# Altium integrated library Analog Devices Operational Amplifiers.IntLib: 2102 symbols (part 46 of 70)
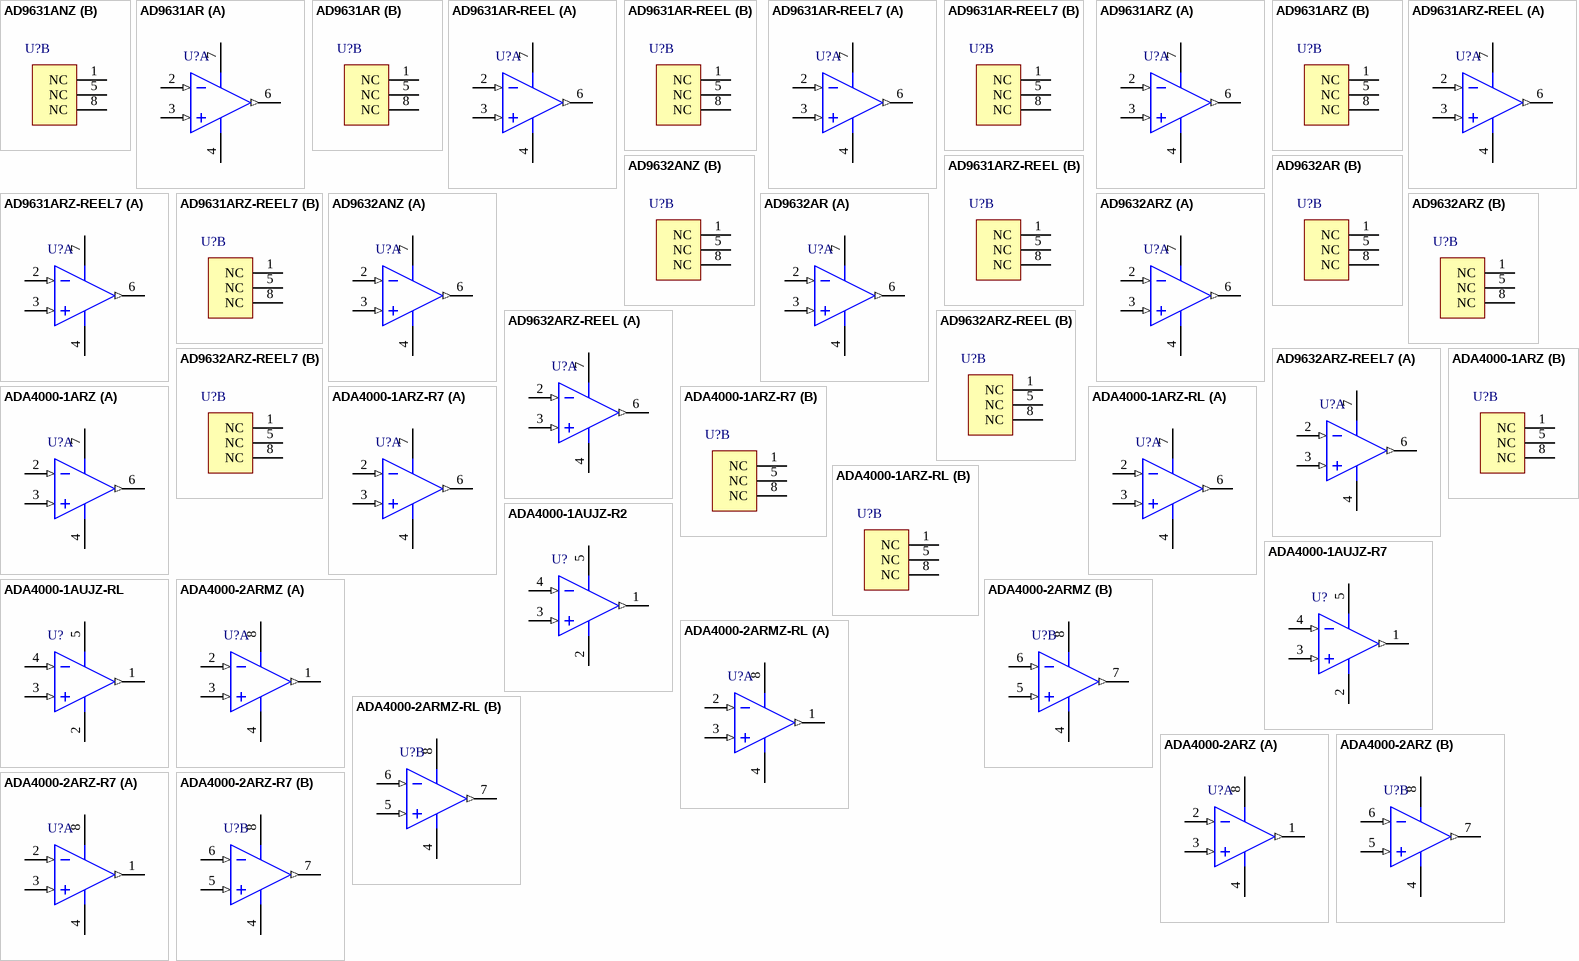
[diagram p159: symbols AD9631ANZ to ADA4000-2ARZ-R7]

## ADA4000-1ARZ-R7
designator U?
Single Channel Wide Bandwidth Operational Amplifier, 5 MHz BW, 20 V/us SR, Industrial, 8-pin SOIC (R-8), Reel; Generic Part Number: ADA4000-1; Manufacturer: Analog Devices; PartNumber: ADA4000-1ARZ-R7; Amplifiers Per Package: 1; Input Bias Current: 5pA; Input Offset Voltage: 200uV; Iq/Amp: 1.65mA; Slew Rate: 20V/us; Small Signal Bandwidth: 5MHz; V Span Max: 36V; V Span Min: 8V; DatasheetVersion: Rev. A; PackageVersion: 060506-A; PackageReference: R-8; PackageDescription: 8-Pin Standard Small Outline Package, Body 3.9 x 4.9 mm, Pitch 1.27 mm; Supplier 1: Digi-Key; Supplier Part Number 1: ADA4000-1ARZ-R7-ND; Mounting Technology: Surface Mount; Code_JEDEC: MS-012-AA; ComponentLink1Description: Manufacturer URL; ComponentLink1URL: http://www.analog.com/en/index.html; ComponentLink2Description: Datasheet; ComponentLink2URL: http://www.analog.com/static/imported-files/data_sheets/ADA4000-1_4000-2_4000-4.pdf; ComponentLink3Description: Package Specification; ComponentLink3URL: http://www.analog.com/static/imported-files/packages/PKG_PDF/SOIC_Narrow%20(R)/R_8.pdf; ComponentLink4Description: Reference Circuit; ComponentLink4URL: http://www.analog.com/en/all-operational-amplifiers-op-amps/operational-amplifiers-op-amps/ada4000-1/products/product.html#product-recommendations
footprint ADI-R-8_N (SOIC, 8-Leads, Body 4.9x3.9mm, Pitch 1.27mm, IPC Medium Density)
footprint ADI-R-8_L (SOIC, 8-Leads, Body 4.9x3.9mm, Pitch 1.27mm, IPC High Density)
footprint ADI-R-8_M (SOIC, 8-Leads, Body 4.9x3.9mm, Pitch 1.27mm, IPC Low Density)
part A pins: 2 -IN (in), 3 +IN (in), 4 -V (power), 6 OUT (out), 7 +V (power)
part B pins: 1 NC, 5 NC, 8 NC

## ADA4000-1ARZ-RL
designator U?
Single Channel Wide Bandwidth Operational Amplifier, 5 MHz BW, 20 V/us SR, Industrial, 8-pin SOIC (R-8), Reel; Generic Part Number: ADA4000-1; Manufacturer: Analog Devices; PartNumber: ADA4000-1ARZ-RL; Amplifiers Per Package: 1; Input Bias Current: 5pA; Input Offset Voltage: 200uV; Iq/Amp: 1.65mA; Slew Rate: 20V/us; Small Signal Bandwidth: 5MHz; V Span Max: 36V; V Span Min: 8V; DatasheetVersion: Rev. A; PackageVersion: 060506-A; PackageReference: R-8; PackageDescription: 8-Pin Standard Small Outline Package, Body 3.9 x 4.9 mm, Pitch 1.27 mm; Supplier 1: Digi-Key; Supplier Part Number 1: ADA4000-1ARZ-RL-ND; Mounting Technology: Surface Mount; Code_JEDEC: MS-012-AA; ComponentLink1Description: Manufacturer URL; ComponentLink1URL: http://www.analog.com/en/index.html; ComponentLink2Description: Datasheet; ComponentLink2URL: http://www.analog.com/static/imported-files/data_sheets/ADA4000-1_4000-2_4000-4.pdf; ComponentLink3Description: Package Specification; ComponentLink3URL: http://www.analog.com/static/imported-files/packages/PKG_PDF/SOIC_Narrow%20(R)/R_8.pdf; ComponentLink4Description: Reference Circuit; ComponentLink4URL: http://www.analog.com/en/all-operational-amplifiers-op-amps/operational-amplifiers-op-amps/ada4000-1/products/product.html#product-recommendations
footprint ADI-R-8_N (SOIC, 8-Leads, Body 4.9x3.9mm, Pitch 1.27mm, IPC Medium Density)
footprint ADI-R-8_L (SOIC, 8-Leads, Body 4.9x3.9mm, Pitch 1.27mm, IPC High Density)
footprint ADI-R-8_M (SOIC, 8-Leads, Body 4.9x3.9mm, Pitch 1.27mm, IPC Low Density)
part A pins: 2 -IN (in), 3 +IN (in), 4 -V (power), 6 OUT (out), 7 +V (power)
part B pins: 1 NC, 5 NC, 8 NC

## ADA4000-1AUJZ-R2
designator U?
Single Channel Wide Bandwidth Operational Amplifier, 5 MHz BW, 20 V/us SR, Industrial, 5-pin SOT23 (UJ-5), Reel; Generic Part Number: ADA4000-1; Manufacturer: Analog Devices; PartNumber: ADA4000-1AUJZ-R2; Amplifiers Per Package: 1; Input Bias Current: 5pA; Input Offset Voltage: 200uV; Iq/Amp: 1.65mA; Slew Rate: 20V/us; Small Signal Bandwidth: 5MHz; V Span Max: 36V; V Span Min: 8V; DatasheetVersion: Rev. A; PackageVersion: 100708-A; PackageReference: UJ-5; PackageDescription: 5-Pin Thin Small Outline Transistor Package, Body 2.9 x 1.6 mm, Pitch 0.95 mm; Supplier 1: Digi-Key; Supplier Part Number 1: ADA4000-1AUJZ-R2TR-ND; Supplier 2: Digi-Key; Supplier Part Number 2: ADA4000-1AUJZ-R2CT-ND; Supplier 3: Digi-Key; Supplier Part Number 3: ADA4000-1AUJZ-R2DKR-ND; Supplier 4: Farnell; Supplier Part Number 4: 1699565; Supplier 5: Newark; Supplier Part Number 5: 46M5133; Mounting Technology: Surface Mount; Code_JEDEC: MO-193-AB; ComponentLink1Description: Manufacturer URL; ComponentLink1URL: http://www.analog.com/en/index.html; ComponentLink2Description: Datasheet; ComponentLink2URL: http://www.analog.com/static/imported-files/data_sheets/ADA4000-1_4000-2_4000-4.pdf; ComponentLink3Description: Package Specification; ComponentLink3URL: http:/www.analog.com/static/imported-files/packages/PKG_PDF/TSOT(UJ)/UJ_5.pdf; ComponentLink4Description: Reference Circuit; ComponentLink4URL: http://www.analog.com/en/all-operational-amplifiers-op-amps/operational-amplifiers-op-amps/ada4000-1/products/product.html#product-recommendations
footprint ADI-UJ-5_N (SOT23, 5-Leads, Body 2.9x1.6mm, Pitch 0.95mm, IPC Medium Density)
footprint ADI-UJ-5_L (SOT23, 5-Leads, Body 2.9x1.6mm, Pitch 0.95mm, IPC High Density)
footprint ADI-UJ-5_M (SOT23, 5-Leads, Body 2.9x1.6mm, Pitch 0.95mm, IPC Low Density)
pins: 1 OUT (out), 2 -V (power), 3 +IN (in), 4 -IN (in), 5 +V (power)

## ADA4000-1AUJZ-R7
designator U?
Single Channel Wide Bandwidth Operational Amplifier, 5 MHz BW, 20 V/us SR, Industrial, 5-pin SOT23 (UJ-5), Reel; Generic Part Number: ADA4000-1; Manufacturer: Analog Devices; PartNumber: ADA4000-1AUJZ-R7; Amplifiers Per Package: 1; Input Bias Current: 5pA; Input Offset Voltage: 200uV; Iq/Amp: 1.65mA; Slew Rate: 20V/us; Small Signal Bandwidth: 5MHz; V Span Max: 36V; V Span Min: 8V; DatasheetVersion: Rev. A; PackageVersion: 100708-A; PackageReference: UJ-5; PackageDescription: 5-Pin Thin Small Outline Transistor Package, Body 2.9 x 1.6 mm, Pitch 0.95 mm; Supplier 1: Digi-Key; Supplier Part Number 1: ADA4000-1AUJZ-R7TR-ND; Supplier 2: Digi-Key; Supplier Part Number 2: ADA4000-1AUJZ-R7CT-ND; Supplier 3: Digi-Key; Supplier Part Number 3: ADA4000-1AUJZ-R7DKR-ND; Supplier 4: Newark; Supplier Part Number 4: 46M5134; Mounting Technology: Surface Mount; Code_JEDEC: MO-193-AB; ComponentLink1Description: Manufacturer URL; ComponentLink1URL: http://www.analog.com/en/index.html; ComponentLink2Description: Datasheet; ComponentLink2URL: http://www.analog.com/static/imported-files/data_sheets/ADA4000-1_4000-2_4000-4.pdf; ComponentLink3Description: Package Specification; ComponentLink3URL: http:/www.analog.com/static/imported-files/packages/PKG_PDF/TSOT(UJ)/UJ_5.pdf; ComponentLink4Description: Reference Circuit; ComponentLink4URL: http://www.analog.com/en/all-operational-amplifiers-op-amps/operational-amplifiers-op-amps/ada4000-1/products/product.html#product-recommendations
footprint ADI-UJ-5_N (SOT23, 5-Leads, Body 2.9x1.6mm, Pitch 0.95mm, IPC Medium Density)
footprint ADI-UJ-5_L (SOT23, 5-Leads, Body 2.9x1.6mm, Pitch 0.95mm, IPC High Density)
footprint ADI-UJ-5_M (SOT23, 5-Leads, Body 2.9x1.6mm, Pitch 0.95mm, IPC Low Density)
pins: 1 OUT (out), 2 -V (power), 3 +IN (in), 4 -IN (in), 5 +V (power)

## ADA4000-1AUJZ-RL
designator U?
Single Channel Wide Bandwidth Operational Amplifier, 5 MHz BW, 20 V/us SR, Industrial, 5-pin SOT23 (UJ-5), Reel; Generic Part Number: ADA4000-1; Manufacturer: Analog Devices; PartNumber: ADA4000-1AUJZ-RL; Amplifiers Per Package: 1; Input Bias Current: 5pA; Input Offset Voltage: 200uV; Iq/Amp: 1.65mA; Slew Rate: 20V/us; Small Signal Bandwidth: 5MHz; V Span Max: 36V; V Span Min: 8V; DatasheetVersion: Rev. A; PackageVersion: 100708-A; PackageReference: UJ-5; PackageDescription: 5-Pin Thin Small Outline Transistor Package, Body 2.9 x 1.6 mm, Pitch 0.95 mm; Supplier 1: Digi-Key; Supplier Part Number 1: ADA4000-1AUJZ-RL-ND; Mounting Technology: Surface Mount; Code_JEDEC: MO-193-AB; ComponentLink1Description: Manufacturer URL; ComponentLink1URL: http://www.analog.com/en/index.html; ComponentLink2Description: Datasheet; ComponentLink2URL: http://www.analog.com/static/imported-files/data_sheets/ADA4000-1_4000-2_4000-4.pdf; ComponentLink3Description: Package Specification; ComponentLink3URL: http:/www.analog.com/static/imported-files/packages/PKG_PDF/TSOT(UJ)/UJ_5.pdf; ComponentLink4Description: Reference Circuit; ComponentLink4URL: http://www.analog.com/en/all-operational-amplifiers-op-amps/operational-amplifiers-op-amps/ada4000-1/products/product.html#product-recommendations
footprint ADI-UJ-5_N (SOT23, 5-Leads, Body 2.9x1.6mm, Pitch 0.95mm, IPC Medium Density)
footprint ADI-UJ-5_L (SOT23, 5-Leads, Body 2.9x1.6mm, Pitch 0.95mm, IPC High Density)
footprint ADI-UJ-5_M (SOT23, 5-Leads, Body 2.9x1.6mm, Pitch 0.95mm, IPC Low Density)
pins: 1 OUT (out), 2 -V (power), 3 +IN (in), 4 -IN (in), 5 +V (power)

## ADA4000-2ARMZ
designator U?
Double Channel Wide Bandwidth Operational Amplifier, 5 MHz BW, 20 V/us SR, Industrial, 8-pin SOP (RM-8), Tube; Generic Part Number: ADA4000-2; Manufacturer: Analog Devices; PartNumber: ADA4000-2ARMZ; Amplifiers Per Package: 2; Input Bias Current: 5pA; Input Offset Voltage: 200uV; Iq/Amp: 1.65mA; Slew Rate: 20V/us; Small Signal Bandwidth: 5MHz; V Span Max: 36V; V Span Min: 8V; DatasheetVersion: Rev. A; PackageReference: RM-8; PackageDescription: 8-Pin Mini Small Outline Package, Body 3 x 3 mm, Pitch 0.65 mm; Supplier 1: Digi-Key; Supplier Part Number 1: ADA4000-2ARMZ-ND; Mounting Technology: Surface Mount; Code_JEDEC: MO-187-AA; ComponentLink1Description: Manufacturer URL; ComponentLink1URL: http://www.analog.com/en/index.html; ComponentLink2Description: Datasheet; ComponentLink2URL: http://www.analog.com/static/imported-files/data_sheets/ADA4000-1_4000-2_4000-4.pdf; ComponentLink3Description: Package Specification; ComponentLink3URL: http://www.analog.com/static/imported-files/packages/PKG_PDF/MSOP%28RM%29/RM_8.pdf
footprint ADI-RM-8_N (SOP, 8-Leads, Body 3x3mm, Pitch 0.65mm, IPC Medium Density)
footprint ADI-RM-8_L (SOP, 8-Leads, Body 3x3mm, Pitch 0.65mm, IPC High Density)
footprint ADI-RM-8_M (SOP, 8-Leads, Body 3x3mm, Pitch 0.65mm, IPC Low Density)
pins on every part: 4 -V (power), 8 +V (power)
part A pins: 1 OUT A (out), 2 -IN A (in), 3 +IN A (in)
part B pins: 5 +IN B (in), 6 -IN B (in), 7 OUT B (out)

## ADA4000-2ARMZ-RL
designator U?
Double Channel Wide Bandwidth Operational Amplifier, 5 MHz BW, 20 V/us SR, Industrial, 8-pin SOP (RM-8), Reel; Generic Part Number: ADA4000-2; Manufacturer: Analog Devices; PartNumber: ADA4000-2ARMZ-RL; Amplifiers Per Package: 2; Input Bias Current: 5pA; Input Offset Voltage: 200uV; Iq/Amp: 1.65mA; Slew Rate: 20V/us; Small Signal Bandwidth: 5MHz; V Span Max: 36V; V Span Min: 8V; DatasheetVersion: Rev. A; PackageReference: RM-8; PackageDescription: 8-Pin Mini Small Outline Package, Body 3 x 3 mm, Pitch 0.65 mm; Supplier 1: Digi-Key; Supplier Part Number 1: ADA4000-2ARMZ-RLTR-ND; Supplier 2: Digi-Key; Supplier Part Number 2: ADA4000-2ARMZ-RLCT-ND; Supplier 3: Digi-Key; Supplier Part Number 3: ADA4000-2ARMZ-RLDKR-ND; Supplier 4: Newark; Supplier Part Number 4: 46M5135; Mounting Technology: Surface Mount; Code_JEDEC: MO-187-AA; ComponentLink1Description: Manufacturer URL; ComponentLink1URL: http://www.analog.com/en/index.html; ComponentLink2Description: Datasheet; ComponentLink2URL: http://www.analog.com/static/imported-files/data_sheets/ADA4000-1_4000-2_4000-4.pdf; ComponentLink3Description: Package Specification; ComponentLink3URL: http://www.analog.com/static/imported-files/packages/PKG_PDF/MSOP%28RM%29/RM_8.pdf
footprint ADI-RM-8_N (SOP, 8-Leads, Body 3x3mm, Pitch 0.65mm, IPC Medium Density)
footprint ADI-RM-8_L (SOP, 8-Leads, Body 3x3mm, Pitch 0.65mm, IPC High Density)
footprint ADI-RM-8_M (SOP, 8-Leads, Body 3x3mm, Pitch 0.65mm, IPC Low Density)
pins on every part: 4 -V (power), 8 +V (power)
part A pins: 1 OUT A (out), 2 -IN A (in), 3 +IN A (in)
part B pins: 5 +IN B (in), 6 -IN B (in), 7 OUT B (out)

## ADA4000-2ARZ
designator U?
Double Channel Wide Bandwidth Operational Amplifier, 5 MHz BW, 20 V/us SR, Industrial, 8-pin SOIC (R-8), Tube; Generic Part Number: ADA4000-2; Manufacturer: Analog Devices; PartNumber: ADA4000-2ARZ; Amplifiers Per Package: 2; Input Bias Current: 5pA; Input Offset Voltage: 200uV; Iq/Amp: 1.65mA; Slew Rate: 20V/us; Small Signal Bandwidth: 5MHz; V Span Max: 36V; V Span Min: 8V; DatasheetVersion: Rev. A; PackageVersion: 060506-A; PackageReference: R-8; PackageDescription: 8-Pin Standard Small Outline Package, Body 3.9 x 4.9 mm, Pitch 1.27 mm; Supplier 1: Digi-Key; Supplier Part Number 1: ADA4000-2ARZ-ND; Supplier 2: Farnell; Supplier Part Number 2: 1498689; Supplier 3: Newark; Supplier Part Number 3: 15P0319; Supplier 4: Newark; Supplier Part Number 4: 46M5137; Mounting Technology: Surface Mount; Code_JEDEC: MS-012-AA; ComponentLink1Description: Manufacturer URL; ComponentLink1URL: http://www.analog.com/en/index.html; ComponentLink2Description: Datasheet; ComponentLink2URL: http://www.analog.com/static/imported-files/data_sheets/ADA4000-1_4000-2_4000-4.pdf; ComponentLink3Description: Package Specification; ComponentLink3URL: http://www.analog.com/static/imported-files/packages/PKG_PDF/SOIC_Narrow%20(R)/R_8.pdf
footprint ADI-R-8_N (SOIC, 8-Leads, Body 4.9x3.9mm, Pitch 1.27mm, IPC Medium Density)
footprint ADI-R-8_L (SOIC, 8-Leads, Body 4.9x3.9mm, Pitch 1.27mm, IPC High Density)
footprint ADI-R-8_M (SOIC, 8-Leads, Body 4.9x3.9mm, Pitch 1.27mm, IPC Low Density)
pins on every part: 4 -V (power), 8 +V (power)
part A pins: 1 OUT A (out), 2 -IN A (in), 3 +IN A (in)
part B pins: 5 +IN B (in), 6 -IN B (in), 7 OUT B (out)

## ADA4000-2ARZ-R7
designator U?
Double Channel Wide Bandwidth Operational Amplifier, 5 MHz BW, 20 V/us SR, Industrial, 8-pin SOIC (R-8), Reel; Generic Part Number: ADA4000-2; Manufacturer: Analog Devices; PartNumber: ADA4000-2ARZ-R7; Amplifiers Per Package: 2; Input Bias Current: 5pA; Input Offset Voltage: 200uV; Iq/Amp: 1.65mA; Slew Rate: 20V/us; Small Signal Bandwidth: 5MHz; V Span Max: 36V; V Span Min: 8V; DatasheetVersion: Rev. A; PackageVersion: 060506-A; PackageReference: R-8; PackageDescription: 8-Pin Standard Small Outline Package, Body 3.9 x 4.9 mm, Pitch 1.27 mm; Supplier 1: Digi-Key; Supplier Part Number 1: ADA4000-2ARZ-R7-ND; Mounting Technology: Surface Mount; Code_JEDEC: MS-012-AA; ComponentLink1Description: Manufacturer URL; ComponentLink1URL: http://www.analog.com/en/index.html; ComponentLink2Description: Datasheet; ComponentLink2URL: http://www.analog.com/static/imported-files/data_sheets/ADA4000-1_4000-2_4000-4.pdf; ComponentLink3Description: Package Specification; ComponentLink3URL: http://www.analog.com/static/imported-files/packages/PKG_PDF/SOIC_Narrow%20(R)/R_8.pdf
footprint ADI-R-8_N (SOIC, 8-Leads, Body 4.9x3.9mm, Pitch 1.27mm, IPC Medium Density)
footprint ADI-R-8_L (SOIC, 8-Leads, Body 4.9x3.9mm, Pitch 1.27mm, IPC High Density)
footprint ADI-R-8_M (SOIC, 8-Leads, Body 4.9x3.9mm, Pitch 1.27mm, IPC Low Density)
pins on every part: 4 -V (power), 8 +V (power)
part A pins: 1 OUT A (out), 2 -IN A (in), 3 +IN A (in)
part B pins: 5 +IN B (in), 6 -IN B (in), 7 OUT B (out)

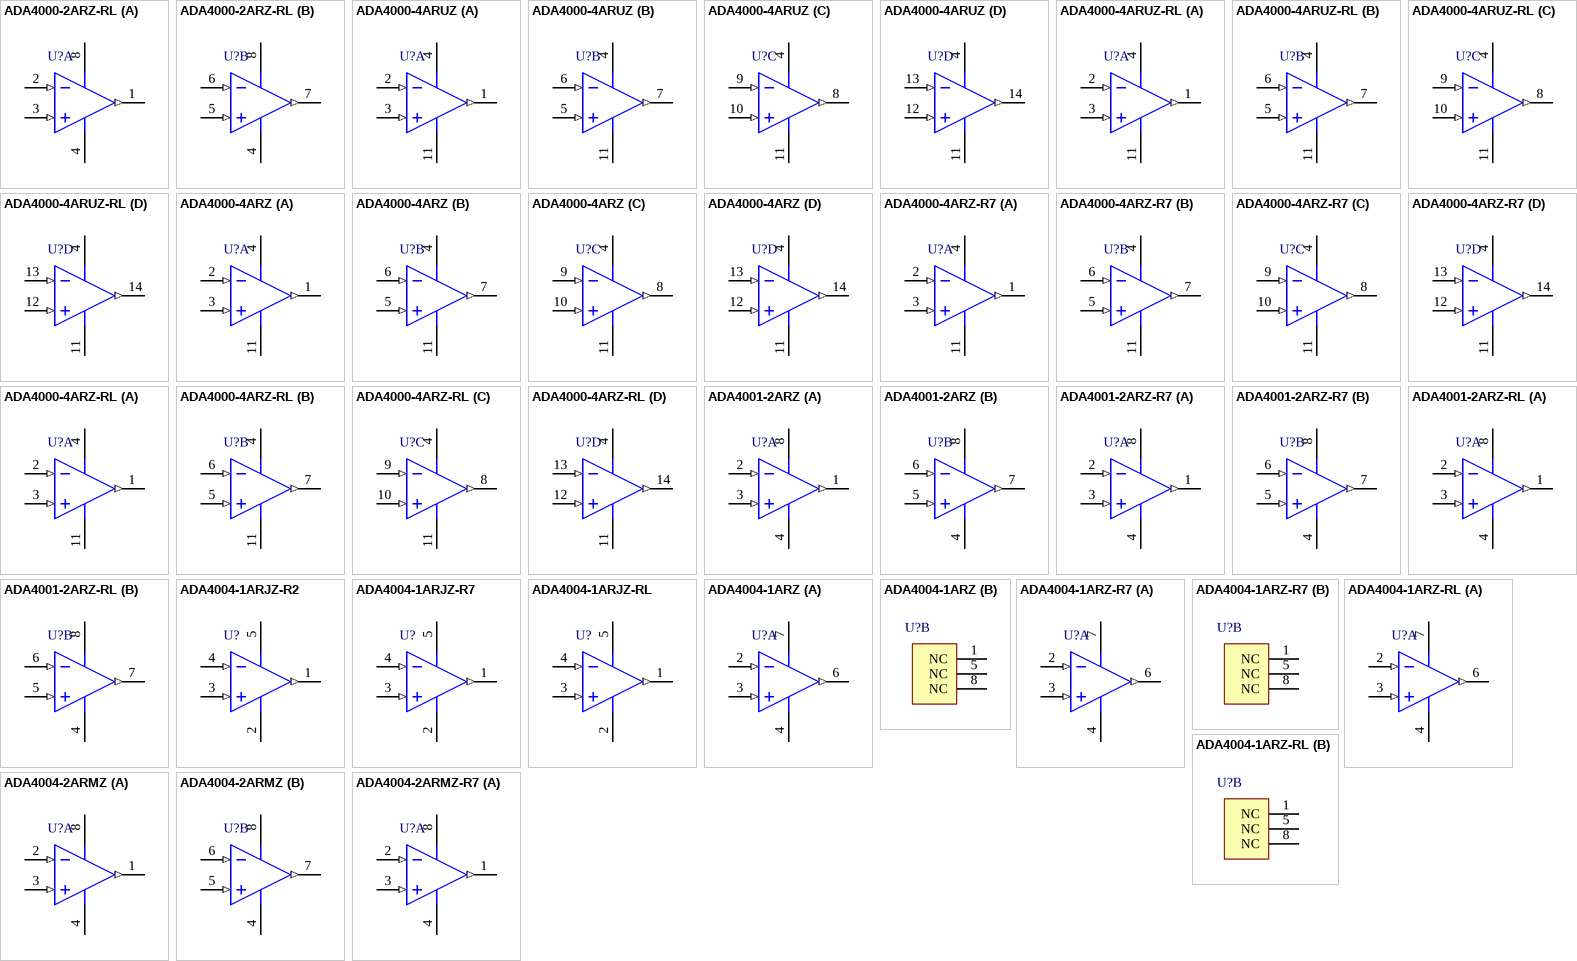
[diagram p72: symbols ADA4000-2ARZ-RL to ADA4004-2ARMZ-R7]

## ADA4000-2ARZ-RL
designator U?
Double Channel Wide Bandwidth Operational Amplifier, 5 MHz BW, 20 V/us SR, Industrial, 8-pin SOIC (R-8), Reel; Generic Part Number: ADA4000-2; Manufacturer: Analog Devices; PartNumber: ADA4000-2ARZ-RL; Amplifiers Per Package: 2; Input Bias Current: 5pA; Input Offset Voltage: 200uV; Iq/Amp: 1.65mA; Slew Rate: 20V/us; Small Signal Bandwidth: 5MHz; V Span Max: 36V; V Span Min: 8V; DatasheetVersion: Rev. A; PackageVersion: 060506-A; PackageReference: R-8; PackageDescription: 8-Pin Standard Small Outline Package, Body 3.9 x 4.9 mm, Pitch 1.27 mm; Supplier 1: Digi-Key; Supplier Part Number 1: ADA4000-2ARZ-RL-ND; Mounting Technology: Surface Mount; Code_JEDEC: MS-012-AA; ComponentLink1Description: Manufacturer URL; ComponentLink1URL: http://www.analog.com/en/index.html; ComponentLink2Description: Datasheet; ComponentLink2URL: http://www.analog.com/static/imported-files/data_sheets/ADA4000-1_4000-2_4000-4.pdf; ComponentLink3Description: Package Specification; ComponentLink3URL: http://www.analog.com/static/imported-files/packages/PKG_PDF/SOIC_Narrow%20(R)/R_8.pdf
footprint ADI-R-8_N (SOIC, 8-Leads, Body 4.9x3.9mm, Pitch 1.27mm, IPC Medium Density)
footprint ADI-R-8_L (SOIC, 8-Leads, Body 4.9x3.9mm, Pitch 1.27mm, IPC High Density)
footprint ADI-R-8_M (SOIC, 8-Leads, Body 4.9x3.9mm, Pitch 1.27mm, IPC Low Density)
pins on every part: 4 -V (power), 8 +V (power)
part A pins: 1 OUT A (out), 2 -IN A (in), 3 +IN A (in)
part B pins: 5 +IN B (in), 6 -IN B (in), 7 OUT B (out)

## ADA4000-4ARUZ
designator U?
Quad Channel Wide Bandwidth Operational Amplifier, 5 MHz BW, 20 V/us SR, Industrial, 14-pin SOP (RU-14),Tube; Generic Part Number: ADA4000-4; Manufacturer: Analog Devices; PartNumber: ADA4000-4ARUZ; Amplifiers Per Package: 4; Input Bias Current: 5pA; Input Offset Voltage: 200uV; Iq/Amp: 1.65mA; Slew Rate: 20V/us; Small Signal Bandwidth: 5MHz; V Span Max: 36V; V Span Min: 8V; DatasheetVersion: Rev. A; PackageReference: RU-14; PackageDescription: 14-Pin Thin Shrink Small Outline Package, Body 5 x 4.4 mm, Pitch 0.65 mm; Supplier 1: Digi-Key; Supplier Part Number 1: ADA4000-4ARUZ-ND; Supplier 2: Newark; Supplier Part Number 2: 50M0761; Mounting Technology: Surface Mount; Code_JEDEC: MO-153AB-1; ComponentLink1Description: Manufacturer URL; ComponentLink1URL: http://www.analog.com/en/index.html; ComponentLink2Description: Datasheet; ComponentLink2URL: http://www.analog.com/static/imported-files/data_sheets/ADA4000-1_4000-2_4000-4.pdf; ComponentLink3Description: Package Specification; ComponentLink3URL: http://www.analog.com/static/imported-files/packages/36057385283879153717235186773RU14.pdf
footprint ADI-RU-14_N (SOP, 14-Leads, Body 5x4.4mm, Pitch 0.65mm, IPC Medium Density)
footprint ADI-RU-14_L (SOP, 14-Leads, Body 5x4.4mm, Pitch 0.65mm, IPC High Density)
footprint ADI-RU-14_M (SOP, 14-Leads, Body 5x4.4mm, Pitch 0.65mm, IPC Low Density)
pins on every part: 4 +V (power), 11 -V (power)
part A pins: 1 OUT A (out), 2 -IN A (in), 3 +IN A (in)
part B pins: 5 +IN B (in), 6 -IN B (in), 7 OUT B (out)
part C pins: 8 OUT C (out), 9 -IN C (in), 10 +IN C (in)
part D pins: 12 +IN D (in), 13 -IN D (in), 14 OUT D (out)

## ADA4000-4ARUZ-RL
designator U?
Quad Channel Wide Bandwidth Operational Amplifier, 5 MHz BW, 20 V/us SR, Industrial, 14-pin SOP (RU-14), Reel; Generic Part Number: ADA4000-4; Manufacturer: Analog Devices; PartNumber: ADA4000-4ARUZ-RL; Amplifiers Per Package: 4; Input Bias Current: 5pA; Input Offset Voltage: 200uV; Iq/Amp: 1.65mA; Slew Rate: 20V/us; Small Signal Bandwidth: 5MHz; V Span Max: 36V; V Span Min: 8V; DatasheetVersion: Rev. A; PackageReference: RU-14; PackageDescription: 14-Pin Thin Shrink Small Outline Package, Body 5 x 4.4 mm, Pitch 0.65 mm; Supplier 1: Digi-Key; Supplier Part Number 1: ADA4000-4ARUZ-RL-ND; Supplier 2: Newark; Supplier Part Number 2: 50M0762; Mounting Technology: Surface Mount; Code_JEDEC: MO-153AB-1; ComponentLink1Description: Manufacturer URL; ComponentLink1URL: http://www.analog.com/en/index.html; ComponentLink2Description: Datasheet; ComponentLink2URL: http://www.analog.com/static/imported-files/data_sheets/ADA4000-1_4000-2_4000-4.pdf; ComponentLink3Description: Package Specification; ComponentLink3URL: http://www.analog.com/static/imported-files/packages/36057385283879153717235186773RU14.pdf
footprint ADI-RU-14_N (SOP, 14-Leads, Body 5x4.4mm, Pitch 0.65mm, IPC Medium Density)
footprint ADI-RU-14_L (SOP, 14-Leads, Body 5x4.4mm, Pitch 0.65mm, IPC High Density)
footprint ADI-RU-14_M (SOP, 14-Leads, Body 5x4.4mm, Pitch 0.65mm, IPC Low Density)
pins on every part: 4 +V (power), 11 -V (power)
part A pins: 1 OUT A (out), 2 -IN A (in), 3 +IN A (in)
part B pins: 5 +IN B (in), 6 -IN B (in), 7 OUT B (out)
part C pins: 8 OUT C (out), 9 -IN C (in), 10 +IN C (in)
part D pins: 12 +IN D (in), 13 -IN D (in), 14 OUT D (out)

## ADA4000-4ARZ
designator U?
Quad Channel Wide Bandwidth Operational Amplifier, 5 MHz BW, 20 V/us SR, Industrial, 14-pin SOIC (R-14), Tube; Generic Part Number: ADA4000-4; Manufacturer: Analog Devices; PartNumber: ADA4000-4ARZ; Amplifiers Per Package: 4; Input Bias Current: 5pA; Input Offset Voltage: 200uV; Iq/Amp: 1.65mA; Slew Rate: 20V/us; Small Signal Bandwidth: 5MHz; V Span Max: 36V; V Span Min: 8V; DatasheetVersion: Rev. A; PackageVersion: 060606-A; PackageReference: R-14; PackageDescription: 14-Pin Standard Small Outline Package, Body 8.65 x 3.9 mm, Pitch 1.27 mm; Supplier 1: Digi-Key; Supplier Part Number 1: ADA4000-4ARZ-ND; Supplier 2: Farnell; Supplier Part Number 2: 1498690; Supplier 3: Newark; Supplier Part Number 3: 15P0320; Mounting Technology: Surface Mount; Code_JEDEC: MS-012-AB; ComponentLink1Description: Manufacturer URL; ComponentLink1URL: http://www.analog.com/en/index.html; ComponentLink2Description: Datasheet; ComponentLink2URL: http://www.analog.com/static/imported-files/data_sheets/ADA4000-1_4000-2_4000-4.pdf; ComponentLink3Description: Package Specification; ComponentLink3URL: http://www.analog.com/static/imported-files/packages/PKG_PDF/SOIC_Narrow%20(R)/R_14.pdf
footprint ADI-R-14_N (SOIC, 14-Leads, Body 8.65x3.9mm, Pitch 1.27mm, IPC Medium Density)
footprint ADI-R-14_L (SOIC, 14-Leads, Body 8.65x3.9mm, Pitch 1.27mm, IPC High Density)
footprint ADI-R-14_M (SOIC, 14-Leads, Body 8.65x3.9mm, Pitch 1.27mm, IPC Low Density)
pins on every part: 4 +V (power), 11 -V (power)
part A pins: 1 OUT A (out), 2 -IN A (in), 3 +IN A (in)
part B pins: 5 +IN B (in), 6 -IN B (in), 7 OUT B (out)
part C pins: 8 OUT C (out), 9 -IN C (in), 10 +IN C (in)
part D pins: 12 +IN D (in), 13 -IN D (in), 14 OUT D (out)

## ADA4000-4ARZ-R7
designator U?
Quad Channel Wide Bandwidth Operational Amplifier, 5 MHz BW, 20 V/us SR, Industrial, 14-pin SOIC (R-14), Reel; Generic Part Number: ADA4000-4; Manufacturer: Analog Devices; PartNumber: ADA4000-4ARZ-R7; Amplifiers Per Package: 4; Input Bias Current: 5pA; Input Offset Voltage: 200uV; Iq/Amp: 1.65mA; Slew Rate: 20V/us; Small Signal Bandwidth: 5MHz; V Span Max: 36V; V Span Min: 8V; DatasheetVersion: Rev. A; PackageVersion: 060606-A; PackageReference: R-14; PackageDescription: 14-Pin Standard Small Outline Package, Body 8.65 x 3.9 mm, Pitch 1.27 mm; Supplier 1: Digi-Key; Supplier Part Number 1: ADA4000-4ARZ-R7-ND; Supplier 2: Newark; Supplier Part Number 2: 46M5142; Mounting Technology: Surface Mount; Code_JEDEC: MS-012-AB; ComponentLink1Description: Manufacturer URL; ComponentLink1URL: http://www.analog.com/en/index.html; ComponentLink2Description: Datasheet; ComponentLink2URL: http://www.analog.com/static/imported-files/data_sheets/ADA4000-1_4000-2_4000-4.pdf; ComponentLink3Description: Package Specification; ComponentLink3URL: http://www.analog.com/static/imported-files/packages/PKG_PDF/SOIC_Narrow%20(R)/R_14.pdf
footprint ADI-R-14_N (SOIC, 14-Leads, Body 8.65x3.9mm, Pitch 1.27mm, IPC Medium Density)
footprint ADI-R-14_L (SOIC, 14-Leads, Body 8.65x3.9mm, Pitch 1.27mm, IPC High Density)
footprint ADI-R-14_M (SOIC, 14-Leads, Body 8.65x3.9mm, Pitch 1.27mm, IPC Low Density)
pins on every part: 4 +V (power), 11 -V (power)
part A pins: 1 OUT A (out), 2 -IN A (in), 3 +IN A (in)
part B pins: 5 +IN B (in), 6 -IN B (in), 7 OUT B (out)
part C pins: 8 OUT C (out), 9 -IN C (in), 10 +IN C (in)
part D pins: 12 +IN D (in), 13 -IN D (in), 14 OUT D (out)

## ADA4000-4ARZ-RL
designator U?
Quad Channel Wide Bandwidth Operational Amplifier, 5 MHz BW, 20 V/us SR, Industrial, 14-pin SOIC (R-14), Reel; Generic Part Number: ADA4000-4; Manufacturer: Analog Devices; PartNumber: ADA4000-4ARZ-RL; Amplifiers Per Package: 4; Input Bias Current: 5pA; Input Offset Voltage: 200uV; Iq/Amp: 1.65mA; Slew Rate: 20V/us; Small Signal Bandwidth: 5MHz; V Span Max: 36V; V Span Min: 8V; DatasheetVersion: Rev. A; PackageVersion: 060606-A; PackageReference: R-14; PackageDescription: 14-Pin Standard Small Outline Package, Body 8.65 x 3.9 mm, Pitch 1.27 mm; Supplier 1: Digi-Key; Supplier Part Number 1: ADA4000-4ARZ-RL-ND; Mounting Technology: Surface Mount; Code_JEDEC: MS-012-AB; ComponentLink1Description: Manufacturer URL; ComponentLink1URL: http://www.analog.com/en/index.html; ComponentLink2Description: Datasheet; ComponentLink2URL: http://www.analog.com/static/imported-files/data_sheets/ADA4000-1_4000-2_4000-4.pdf; ComponentLink3Description: Package Specification; ComponentLink3URL: http://www.analog.com/static/imported-files/packages/PKG_PDF/SOIC_Narrow%20(R)/R_14.pdf
footprint ADI-R-14_N (SOIC, 14-Leads, Body 8.65x3.9mm, Pitch 1.27mm, IPC Medium Density)
footprint ADI-R-14_L (SOIC, 14-Leads, Body 8.65x3.9mm, Pitch 1.27mm, IPC High Density)
footprint ADI-R-14_M (SOIC, 14-Leads, Body 8.65x3.9mm, Pitch 1.27mm, IPC Low Density)
pins on every part: 4 +V (power), 11 -V (power)
part A pins: 1 OUT A (out), 2 -IN A (in), 3 +IN A (in)
part B pins: 5 +IN B (in), 6 -IN B (in), 7 OUT B (out)
part C pins: 8 OUT C (out), 9 -IN C (in), 10 +IN C (in)
part D pins: 12 +IN D (in), 13 -IN D (in), 14 OUT D (out)

## ADA4001-2ARZ
designator U?
Double Channel Low Noise Operational Amplifier, 10.3 MHz BW, 25 V/us SR, Industrial, 8-pin SOIC (R-8), Tube; Generic Part Number: ADA4001-2; Manufacturer: Analog Devices; PartNumber: ADA4001-2ARZ; Amplifiers Per Package: 2; Input Bias Current: 20pA; Input Offset Voltage: 500uV; Iq/Amp: 2mA; Slew Rate: 25V/us; V Span Max: 36V; V Span Min: 10V; DatasheetVersion: Rev. B; PackageVersion: 060506-A; PackageReference: R-8; PackageDescription: 8-Pin Standard Small Outline Package, Body 3.9 x 4.9 mm, Pitch 1.27 mm; Supplier 1: Digi-Key; Supplier Part Number 1: ADA4001-2ARZ-ND; Supplier 2: Farnell; Supplier Part Number 2: 2081044; Supplier 3: Newark; Supplier Part Number 3: 86T6041; Packing: Tube; Small Signal Bandwidth: 10.3MHz; Mounting Technology: Surface Mount; Code_JEDEC: MS-012-AA; ComponentLink1Description: Manufacturer URL; ComponentLink1URL: http://www.analog.com/en/index.html; ComponentLink2Description: Datasheet; ComponentLink2URL: http://www.analog.com/static/imported-files/data_sheets/ADA4001-2.pdf; ComponentLink3Description: Package Specification; ComponentLink3URL: http://www.analog.com/static/imported-files/packages/PKG_PDF/SOIC_Narrow%20(R)/R_8.pdf
footprint ADI-R-8_N (SOIC, 8-Leads, Body 4.9x3.9mm, Pitch 1.27mm, IPC Medium Density)
footprint ADI-R-8_L (SOIC, 8-Leads, Body 4.9x3.9mm, Pitch 1.27mm, IPC High Density)
footprint ADI-R-8_M (SOIC, 8-Leads, Body 4.9x3.9mm, Pitch 1.27mm, IPC Low Density)
pins on every part: 4 -V (power), 8 +V (power)
part A pins: 1 OUT A (out), 2 -IN A (in), 3 +IN A (in)
part B pins: 5 +IN B (in), 6 -IN B (in), 7 OUT B (out)

## ADA4001-2ARZ-R7
designator U?
Double Channel Low Noise Operational Amplifier, 10.3 MHz BW, 25 V/us SR, Industrial, 8-pin SOIC (R-8), Reel; Generic Part Number: ADA4001-2; Manufacturer: Analog Devices; PartNumber: ADA4001-2ARZ-R7; Amplifiers Per Package: 2; Input Bias Current: 20pA; Input Offset Voltage: 500uV; Iq/Amp: 2mA; Slew Rate: 25V/us; V Span Max: 36V; V Span Min: 10V; DatasheetVersion: Rev. B; PackageVersion: 060506-A; PackageReference: R-8; PackageDescription: 8-Pin Standard Small Outline Package, Body 3.9 x 4.9 mm, Pitch 1.27 mm; Supplier 1: Digi-Key; Supplier Part Number 1: ADA4001-2ARZ-R7-ND; Supplier 2: Newark; Supplier Part Number 2: 86T6043; Packing: Reel; Small Signal Bandwidth: 10.3MHz; Mounting Technology: Surface Mount; Code_JEDEC: MS-012-AA; ComponentLink1Description: Manufacturer URL; ComponentLink1URL: http://www.analog.com/en/index.html; ComponentLink2Description: Datasheet; ComponentLink2URL: http://www.analog.com/static/imported-files/data_sheets/ADA4001-2.pdf; ComponentLink3Description: Package Specification; ComponentLink3URL: http://www.analog.com/static/imported-files/packages/PKG_PDF/SOIC_Narrow%20(R)/R_8.pdf
footprint ADI-R-8_N (SOIC, 8-Leads, Body 4.9x3.9mm, Pitch 1.27mm, IPC Medium Density)
footprint ADI-R-8_L (SOIC, 8-Leads, Body 4.9x3.9mm, Pitch 1.27mm, IPC High Density)
footprint ADI-R-8_M (SOIC, 8-Leads, Body 4.9x3.9mm, Pitch 1.27mm, IPC Low Density)
pins on every part: 4 -V (power), 8 +V (power)
part A pins: 1 OUT A (out), 2 -IN A (in), 3 +IN A (in)
part B pins: 5 +IN B (in), 6 -IN B (in), 7 OUT B (out)

## ADA4001-2ARZ-RL
designator U?
Double Channel Low Noise Operational Amplifier, 10.3 MHz BW, 25 V/us SR, Industrial, 8-pin SOIC (R-8), Reel; Generic Part Number: ADA4001-2; Manufacturer: Analog Devices; PartNumber: ADA4001-2ARZ-RL; Amplifiers Per Package: 2; Input Bias Current: 20pA; Input Offset Voltage: 500uV; Iq/Amp: 2mA; Slew Rate: 25V/us; V Span Max: 36V; V Span Min: 10V; DatasheetVersion: Rev. B; PackageVersion: 060506-A; PackageReference: R-8; PackageDescription: 8-Pin Standard Small Outline Package, Body 3.9 x 4.9 mm, Pitch 1.27 mm; Supplier 1: Digi-Key; Supplier Part Number 1: ADA4001-2ARZ-RL-ND; Supplier 2: Newark; Supplier Part Number 2: 86T6042; Packing: Reel; Small Signal Bandwidth: 10.3MHz; Mounting Technology: Surface Mount; Code_JEDEC: MS-012-AA; ComponentLink1Description: Manufacturer URL; ComponentLink1URL: http://www.analog.com/en/index.html; ComponentLink2Description: Datasheet; ComponentLink2URL: http://www.analog.com/static/imported-files/data_sheets/ADA4001-2.pdf; ComponentLink3Description: Package Specification; ComponentLink3URL: http://www.analog.com/static/imported-files/packages/PKG_PDF/SOIC_Narrow%20(R)/R_8.pdf
footprint ADI-R-8_N (SOIC, 8-Leads, Body 4.9x3.9mm, Pitch 1.27mm, IPC Medium Density)
footprint ADI-R-8_L (SOIC, 8-Leads, Body 4.9x3.9mm, Pitch 1.27mm, IPC High Density)
footprint ADI-R-8_M (SOIC, 8-Leads, Body 4.9x3.9mm, Pitch 1.27mm, IPC Low Density)
pins on every part: 4 -V (power), 8 +V (power)
part A pins: 1 OUT A (out), 2 -IN A (in), 3 +IN A (in)
part B pins: 5 +IN B (in), 6 -IN B (in), 7 OUT B (out)

## ADA4004-1ARJZ-R2
designator U?
Single Channel Wide Bandwidth Operational Amplifier, 12 MHz BW, 2.7 V/us SR, Industrial, 5-pin SOT23 (RJ-5), Reel; Generic Part Number: ADA4004-1; Manufacturer: Analog Devices; PartNumber: ADA4004-1ARJZ-R2; Amplifiers Per Package: 1; Input Bias Current: 40nA; Input Offset Voltage: 40uV; Iq/Amp: 2.2mA; Small Signal Bandwidth: 12MHz; V Span Max: 30V; V Span Min: 10V; DatasheetVersion: Rev. G; PackageVersion: 121608-A; PackageReference: RJ-5; PackageDescription: 5-Pin Small Outline Transistor Package, Body 2.9 x 1.6 mm, Pitch 0.95 mm; Supplier 1: Digi-Key; Supplier Part Number 1: ADA4004-1ARJZ-R2-ND; Supplier 2: Farnell; Supplier Part Number 2: 2112571; Supplier 3: Newark; Supplier Part Number 3: 34P2945; Slew Rate: 2.7V/us; Mounting Technology: Surface Mount; Code_JEDEC: MO-178-AA; ComponentLink1Description: Manufacturer URL; ComponentLink1URL: http://www.analog.com/en/index.html; ComponentLink2Description: Datasheet; ComponentLink2URL: http://www.analog.com/static/imported-files/data_sheets/ADA4004-1_4004-2_4004-4.pdf; ComponentLink3Description: Package Specification; ComponentLink3URL: http://www.analog.com/static/imported-files/packages/PKG_PDF/SOT-23(RJ)/RJ_5.pdf
footprint ADI-RJ-5_N (SOT-23, 5-Leads, Body 2.9x1.6mm, Pitch 0.95mm, IPC Medium Density)
footprint ADI-RJ-5_L (SOT-23, 5-Leads, Body 2.9x1.6mm, Pitch 0.95mm, IPC High Density)
footprint ADI-RJ-5_M (SOT-23, 5-Leads, Body 2.9x1.6mm, Pitch 0.95mm, IPC Low Density)
pins: 1 OUT (out), 2 -V (power), 3 +IN (in), 4 -IN (in), 5 +V (power)

## ADA4004-1ARJZ-R7
designator U?
Single Channel Wide Bandwidth Operational Amplifier, 12 MHz BW, 2.7 V/us SR, Industrial, 5-pin SOT23 (RJ-5), Reel; Generic Part Number: ADA4004-1; Manufacturer: Analog Devices; PartNumber: ADA4004-1ARJZ-R7; Amplifiers Per Package: 1; Input Bias Current: 40nA; Input Offset Voltage: 40uV; Iq/Amp: 2.2mA; Small Signal Bandwidth: 12MHz; V Span Max: 30V; V Span Min: 10V; DatasheetVersion: Rev. G; PackageVersion: 121608-A; PackageReference: RJ-5; PackageDescription: 5-Pin Small Outline Transistor Package, Body 2.9 x 1.6 mm, Pitch 0.95 mm; Supplier 1: Digi-Key; Supplier Part Number 1: ADA4004-1ARJZ-R7TR-ND; Supplier 2: Digi-Key; Supplier Part Number 2: ADA4004-1ARJZ-R7CT-ND; Supplier 3: Digi-Key; Supplier Part Number 3: ADA4004-1ARJZ-R7DKR-ND; Supplier 4: Newark; Supplier Part Number 4: 34P2946; Slew Rate: 2.7V/us; Mounting Technology: Surface Mount; Code_JEDEC: MO-178-AA; ComponentLink1Description: Manufacturer URL; ComponentLink1URL: http://www.analog.com/en/index.html; ComponentLink2Description: Datasheet; ComponentLink2URL: http://www.analog.com/static/imported-files/data_sheets/ADA4004-1_4004-2_4004-4.pdf; ComponentLink3Description: Package Specification; ComponentLink3URL: http://www.analog.com/static/imported-files/packages/PKG_PDF/SOT-23(RJ)/RJ_5.pdf
footprint ADI-RJ-5_N (SOT-23, 5-Leads, Body 2.9x1.6mm, Pitch 0.95mm, IPC Medium Density)
footprint ADI-RJ-5_L (SOT-23, 5-Leads, Body 2.9x1.6mm, Pitch 0.95mm, IPC High Density)
footprint ADI-RJ-5_M (SOT-23, 5-Leads, Body 2.9x1.6mm, Pitch 0.95mm, IPC Low Density)
pins: 1 OUT (out), 2 -V (power), 3 +IN (in), 4 -IN (in), 5 +V (power)

## ADA4004-1ARJZ-RL
designator U?
Single Channel Wide Bandwidth Operational Amplifier, 12 MHz BW, 2.7 V/us SR, Industrial, 5-pin SOT23 (RJ-5), Reel; Generic Part Number: ADA4004-1; Manufacturer: Analog Devices; PartNumber: ADA4004-1ARJZ-RL; Amplifiers Per Package: 1; Input Bias Current: 40nA; Input Offset Voltage: 40uV; Iq/Amp: 2.2mA; Small Signal Bandwidth: 12MHz; V Span Max: 30V; V Span Min: 10V; DatasheetVersion: Rev. G; PackageVersion: 121608-A; PackageReference: RJ-5; PackageDescription: 5-Pin Small Outline Transistor Package, Body 2.9 x 1.6 mm, Pitch 0.95 mm; Supplier 1: Digi-Key; Supplier Part Number 1: ADA4004-1ARJZ-RL-ND; Slew Rate: 2.7V/us; Mounting Technology: Surface Mount; Code_JEDEC: MO-178-AA; ComponentLink1Description: Manufacturer URL; ComponentLink1URL: http://www.analog.com/en/index.html; ComponentLink2Description: Datasheet; ComponentLink2URL: http://www.analog.com/static/imported-files/data_sheets/ADA4004-1_4004-2_4004-4.pdf; ComponentLink3Description: Package Specification; ComponentLink3URL: http://www.analog.com/static/imported-files/packages/PKG_PDF/SOT-23(RJ)/RJ_5.pdf
footprint ADI-RJ-5_N (SOT-23, 5-Leads, Body 2.9x1.6mm, Pitch 0.95mm, IPC Medium Density)
footprint ADI-RJ-5_L (SOT-23, 5-Leads, Body 2.9x1.6mm, Pitch 0.95mm, IPC High Density)
footprint ADI-RJ-5_M (SOT-23, 5-Leads, Body 2.9x1.6mm, Pitch 0.95mm, IPC Low Density)
pins: 1 OUT (out), 2 -V (power), 3 +IN (in), 4 -IN (in), 5 +V (power)

## ADA4004-1ARZ
designator U?
Single Channel Wide Bandwidth Operational Amplifier, 12 MHz BW, 2.7 V/us SR, Industrial, 8-pin SOIC (R-8), Tube; Generic Part Number: ADA4004-1; Manufacturer: Analog Devices; PartNumber: ADA4004-1ARZ; Amplifiers Per Package: 1; Input Bias Current: 40nA; Input Offset Voltage: 40uV; Iq/Amp: 2.2mA; Small Signal Bandwidth: 12MHz; V Span Max: 30V; V Span Min: 10V; DatasheetVersion: Rev. G; PackageVersion: 060506-A; PackageReference: R-8; PackageDescription: 8-Pin Standard Small Outline Package, Body 3.9 x 4.9 mm, Pitch 1.27 mm; Supplier 1: Digi-Key; Supplier Part Number 1: ADA4004-1ARZ-ND; Supplier 2: Farnell; Supplier Part Number 2: 2077698; Supplier 3: Newark; Supplier Part Number 3: 34P2947; Slew Rate: 2.7V/us; Mounting Technology: Surface Mount; Code_JEDEC: MS-012-AA; ComponentLink1Description: Manufacturer URL; ComponentLink1URL: http://www.analog.com/en/index.html; ComponentLink2Description: Datasheet; ComponentLink2URL: http://www.analog.com/static/imported-files/data_sheets/ADA4004-1_4004-2_4004-4.pdf; ComponentLink3Description: Package Specification; ComponentLink3URL: http://www.analog.com/static/imported-files/packages/PKG_PDF/SOIC_Narrow%20(R)/R_8.pdf
footprint ADI-R-8_N (SOIC, 8-Leads, Body 4.9x3.9mm, Pitch 1.27mm, IPC Medium Density)
footprint ADI-R-8_L (SOIC, 8-Leads, Body 4.9x3.9mm, Pitch 1.27mm, IPC High Density)
footprint ADI-R-8_M (SOIC, 8-Leads, Body 4.9x3.9mm, Pitch 1.27mm, IPC Low Density)
part A pins: 2 -IN (in), 3 +IN (in), 4 -V (power), 6 OUT (out), 7 +V (power)
part B pins: 1 NC, 5 NC, 8 NC

## ADA4004-1ARZ-R7
designator U?
Single Channel Wide Bandwidth Operational Amplifier, 12 MHz BW, 2.7 V/us SR, Industrial, 8-pin SOIC (R-8), Reel; Generic Part Number: ADA4004-1; Manufacturer: Analog Devices; PartNumber: ADA4004-1ARZ-R7; Amplifiers Per Package: 1; Input Bias Current: 40nA; Input Offset Voltage: 40uV; Iq/Amp: 2.2mA; Small Signal Bandwidth: 12MHz; V Span Max: 30V; V Span Min: 10V; DatasheetVersion: Rev. G; PackageVersion: 060506-A; PackageReference: R-8; PackageDescription: 8-Pin Standard Small Outline Package, Body 3.9 x 4.9 mm, Pitch 1.27 mm; Supplier 1: Digi-Key; Supplier Part Number 1: ADA4004-1ARZ-R7-ND; Slew Rate: 2.7V/us; Mounting Technology: Surface Mount; Code_JEDEC: MS-012-AA; ComponentLink1Description: Manufacturer URL; ComponentLink1URL: http://www.analog.com/en/index.html; ComponentLink2Description: Datasheet; ComponentLink2URL: http://www.analog.com/static/imported-files/data_sheets/ADA4004-1_4004-2_4004-4.pdf; ComponentLink3Description: Package Specification; ComponentLink3URL: http://www.analog.com/static/imported-files/packages/PKG_PDF/SOIC_Narrow%20(R)/R_8.pdf
footprint ADI-R-8_N (SOIC, 8-Leads, Body 4.9x3.9mm, Pitch 1.27mm, IPC Medium Density)
footprint ADI-R-8_L (SOIC, 8-Leads, Body 4.9x3.9mm, Pitch 1.27mm, IPC High Density)
footprint ADI-R-8_M (SOIC, 8-Leads, Body 4.9x3.9mm, Pitch 1.27mm, IPC Low Density)
part A pins: 2 -IN (in), 3 +IN (in), 4 -V (power), 6 OUT (out), 7 +V (power)
part B pins: 1 NC, 5 NC, 8 NC

## ADA4004-1ARZ-RL
designator U?
Single Channel Wide Bandwidth Operational Amplifier, 12 MHz BW, 2.7 V/us SR, Industrial, 8-pin SOIC (R-8), Reel; Generic Part Number: ADA4004-1; Manufacturer: Analog Devices; PartNumber: ADA4004-1ARZ-RL; Amplifiers Per Package: 1; Input Bias Current: 40nA; Input Offset Voltage: 40uV; Iq/Amp: 2.2mA; Small Signal Bandwidth: 12MHz; V Span Max: 30V; V Span Min: 10V; DatasheetVersion: Rev. G; PackageVersion: 060506-A; PackageReference: R-8; PackageDescription: 8-Pin Standard Small Outline Package, Body 3.9 x 4.9 mm, Pitch 1.27 mm; Supplier 1: Digi-Key; Supplier Part Number 1: ADA4004-1ARZ-RL-ND; Slew Rate: 2.7V/us; Mounting Technology: Surface Mount; Code_JEDEC: MS-012-AA; ComponentLink1Description: Manufacturer URL; ComponentLink1URL: http://www.analog.com/en/index.html; ComponentLink2Description: Datasheet; ComponentLink2URL: http://www.analog.com/static/imported-files/data_sheets/ADA4004-1_4004-2_4004-4.pdf; ComponentLink3Description: Package Specification; ComponentLink3URL: http://www.analog.com/static/imported-files/packages/PKG_PDF/SOIC_Narrow%20(R)/R_8.pdf
footprint ADI-R-8_N (SOIC, 8-Leads, Body 4.9x3.9mm, Pitch 1.27mm, IPC Medium Density)
footprint ADI-R-8_L (SOIC, 8-Leads, Body 4.9x3.9mm, Pitch 1.27mm, IPC High Density)
footprint ADI-R-8_M (SOIC, 8-Leads, Body 4.9x3.9mm, Pitch 1.27mm, IPC Low Density)
part A pins: 2 -IN (in), 3 +IN (in), 4 -V (power), 6 OUT (out), 7 +V (power)
part B pins: 1 NC, 5 NC, 8 NC

## ADA4004-2ARMZ
designator U?
Double Channel Wide Bandwidth Operational Amplifier, 12 MHz BW, 2.7 V/us SR, Industrial, 8-pin SOP (RM-8), Tube; Generic Part Number: ADA4004-2; Manufacturer: Analog Devices; PartNumber: ADA4004-2ARMZ; Amplifiers Per Package: 2; Input Bias Current: 40nA; Input Offset Voltage: 40uV; Iq/Amp: 2.2mA; Small Signal Bandwidth: 12MHz; V Span Max: 30V; V Span Min: 10V; DatasheetVersion: Rev. G; PackageReference: RM-8; PackageDescription: 8-Pin Mini Small Outline Package, Body 3 x 3 mm, Pitch 0.65 mm; Supplier 1: Digi-Key; Supplier Part Number 1: ADA4004-2ARMZ-ND; Supplier 2: Farnell; Supplier Part Number 2: 2077696; Supplier 3: Newark; Supplier Part Number 3: 34P2950; Slew Rate: 2.7V/us; Mounting Technology: Surface Mount; Code_JEDEC: MO-187-AA; ComponentLink1Description: Manufacturer URL; ComponentLink1URL: http://www.analog.com/en/index.html; ComponentLink2Description: Datasheet; ComponentLink2URL: http://www.analog.com/static/imported-files/data_sheets/ADA4004-1_4004-2_4004-4.pdf; ComponentLink3Description: Package Specification; ComponentLink3URL: http://www.analog.com/static/imported-files/packages/PKG_PDF/MSOP%28RM%29/RM_8.pdf; ComponentLink4Description: Reference Circuit; ComponentLink4URL: http://www.analog.com/en/all-operational-amplifiers-op-amps/operational-amplifiers-op-amps/ada4004-2/products/product.html#product-recommendations
footprint ADI-RM-8_N (SOP, 8-Leads, Body 3x3mm, Pitch 0.65mm, IPC Medium Density)
footprint ADI-RM-8_L (SOP, 8-Leads, Body 3x3mm, Pitch 0.65mm, IPC High Density)
footprint ADI-RM-8_M (SOP, 8-Leads, Body 3x3mm, Pitch 0.65mm, IPC Low Density)
pins on every part: 4 -V (power), 8 +V (power)
part A pins: 1 OUT A (out), 2 -IN A (in), 3 +IN A (in)
part B pins: 5 +IN B (in), 6 -IN B (in), 7 OUT B (out)

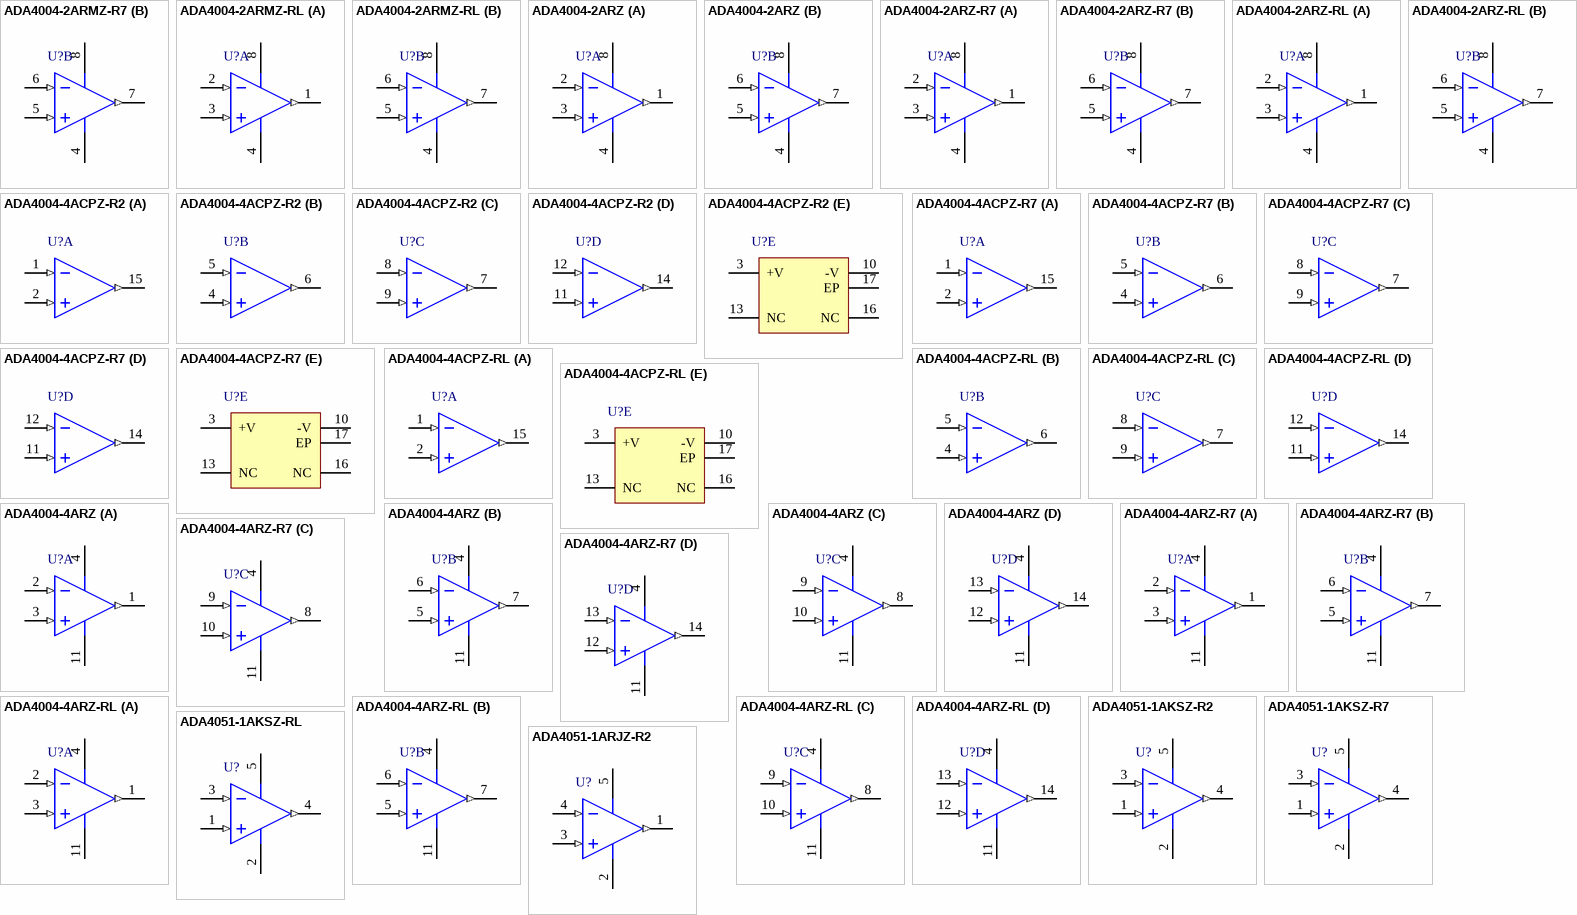
[diagram p73: symbols ADA4004-2ARMZ-R7 to ADA4051-1ARJZ-R2]

## ADA4004-2ARMZ-R7
designator U?
Double Channel Wide Bandwidth Operational Amplifier, 12 MHz BW, 2.7 V/us SR, Industrial, 8-pin SOP (RM-8), Reel; Generic Part Number: ADA4004-2; Manufacturer: Analog Devices; PartNumber: ADA4004-2ARMZ-R7; Amplifiers Per Package: 2; Input Bias Current: 40nA; Input Offset Voltage: 40uV; Iq/Amp: 2.2mA; Small Signal Bandwidth: 12MHz; V Span Max: 30V; V Span Min: 10V; DatasheetVersion: Rev. G; PackageReference: RM-8; PackageDescription: 8-Pin Mini Small Outline Package, Body 3 x 3 mm, Pitch 0.65 mm; Supplier 1: Digi-Key; Supplier Part Number 1: ADA4004-2ARMZ-R7TR-ND; Supplier 2: Digi-Key; Supplier Part Number 2: ADA4004-2ARMZ-R7CT-ND; Supplier 3: Digi-Key; Supplier Part Number 3: ADA4004-2ARMZ-R7DKR-ND; Supplier 4: Newark; Supplier Part Number 4: 34P2952; Slew Rate: 2.7V/us; Mounting Technology: Surface Mount; Code_JEDEC: MO-187-AA; ComponentLink1Description: Manufacturer URL; ComponentLink1URL: http://www.analog.com/en/index.html; ComponentLink2Description: Datasheet; ComponentLink2URL: http://www.analog.com/static/imported-files/data_sheets/ADA4004-1_4004-2_4004-4.pdf; ComponentLink3Description: Package Specification; ComponentLink3URL: http://www.analog.com/static/imported-files/packages/PKG_PDF/MSOP%28RM%29/RM_8.pdf; ComponentLink4Description: Reference Circuit; ComponentLink4URL: http://www.analog.com/en/all-operational-amplifiers-op-amps/operational-amplifiers-op-amps/ada4004-2/products/product.html#product-recommendations
footprint ADI-RM-8_N (SOP, 8-Leads, Body 3x3mm, Pitch 0.65mm, IPC Medium Density)
footprint ADI-RM-8_L (SOP, 8-Leads, Body 3x3mm, Pitch 0.65mm, IPC High Density)
footprint ADI-RM-8_M (SOP, 8-Leads, Body 3x3mm, Pitch 0.65mm, IPC Low Density)
pins on every part: 4 -V (power), 8 +V (power)
part A pins: 1 OUT A (out), 2 -IN A (in), 3 +IN A (in)
part B pins: 5 +IN B (in), 6 -IN B (in), 7 OUT B (out)

## ADA4004-2ARMZ-RL
designator U?
Double Channel Wide Bandwidth Operational Amplifier, 12 MHz BW, 2.7 V/us SR, Industrial, 8-pin SOP (RM-8), Reel; Generic Part Number: ADA4004-2; Manufacturer: Analog Devices; PartNumber: ADA4004-2ARMZ-RL; Amplifiers Per Package: 2; Input Bias Current: 40nA; Input Offset Voltage: 40uV; Iq/Amp: 2.2mA; Small Signal Bandwidth: 12MHz; V Span Max: 30V; V Span Min: 10V; DatasheetVersion: Rev. G; PackageReference: RM-8; PackageDescription: 8-Pin Mini Small Outline Package, Body 3 x 3 mm, Pitch 0.65 mm; Supplier 1: Digi-Key; Supplier Part Number 1: ADA4004-2ARMZ-RL-ND; Supplier 2: Newark; Supplier Part Number 2: 34P2951; Slew Rate: 2.7V/us; Mounting Technology: Surface Mount; Code_JEDEC: MO-187-AA; ComponentLink1Description: Manufacturer URL; ComponentLink1URL: http://www.analog.com/en/index.html; ComponentLink2Description: Datasheet; ComponentLink2URL: http://www.analog.com/static/imported-files/data_sheets/ADA4004-1_4004-2_4004-4.pdf; ComponentLink3Description: Package Specification; ComponentLink3URL: http://www.analog.com/static/imported-files/packages/PKG_PDF/MSOP%28RM%29/RM_8.pdf; ComponentLink4Description: Reference Circuit; ComponentLink4URL: http://www.analog.com/en/all-operational-amplifiers-op-amps/operational-amplifiers-op-amps/ada4004-2/products/product.html#product-recommendations
footprint ADI-RM-8_N (SOP, 8-Leads, Body 3x3mm, Pitch 0.65mm, IPC Medium Density)
footprint ADI-RM-8_L (SOP, 8-Leads, Body 3x3mm, Pitch 0.65mm, IPC High Density)
footprint ADI-RM-8_M (SOP, 8-Leads, Body 3x3mm, Pitch 0.65mm, IPC Low Density)
pins on every part: 4 -V (power), 8 +V (power)
part A pins: 1 OUT A (out), 2 -IN A (in), 3 +IN A (in)
part B pins: 5 +IN B (in), 6 -IN B (in), 7 OUT B (out)

## ADA4004-2ARZ
designator U?
Double Channel Wide Bandwidth Operational Amplifier, 12 MHz BW, 2.7 V/us SR, Industrial, 8-pin SOIC (R-8), Tube; Generic Part Number: ADA4004-2; Manufacturer: Analog Devices; PartNumber: ADA4004-2ARZ; Amplifiers Per Package: 2; Input Bias Current: 40nA; Input Offset Voltage: 40uV; Iq/Amp: 2.2mA; Small Signal Bandwidth: 12MHz; V Span Max: 30V; V Span Min: 10V; DatasheetVersion: Rev. G; PackageVersion: 060506-A; PackageReference: R-8; PackageDescription: 8-Pin Standard Small Outline Package, Body 3.9 x 4.9 mm, Pitch 1.27 mm; Supplier 1: Digi-Key; Supplier Part Number 1: ADA4004-2ARZ-ND; Supplier 2: Farnell; Supplier Part Number 2: 2077697; Supplier 3: Newark; Supplier Part Number 3: 34P2953; Slew Rate: 2.7V/us; Mounting Technology: Surface Mount; Code_JEDEC: MS-012-AA; ComponentLink1Description: Manufacturer URL; ComponentLink1URL: http://www.analog.com/en/index.html; ComponentLink2Description: Datasheet; ComponentLink2URL: http://www.analog.com/static/imported-files/data_sheets/ADA4004-1_4004-2_4004-4.pdf; ComponentLink3Description: Package Specification; ComponentLink3URL: http://www.analog.com/static/imported-files/packages/PKG_PDF/SOIC_Narrow%20(R)/R_8.pdf; ComponentLink4Description: Reference Circuit; ComponentLink4URL: http://www.analog.com/en/all-operational-amplifiers-op-amps/operational-amplifiers-op-amps/ada4004-2/products/product.html#product-recommendations
footprint ADI-R-8_N (SOIC, 8-Leads, Body 4.9x3.9mm, Pitch 1.27mm, IPC Medium Density)
footprint ADI-R-8_L (SOIC, 8-Leads, Body 4.9x3.9mm, Pitch 1.27mm, IPC High Density)
footprint ADI-R-8_M (SOIC, 8-Leads, Body 4.9x3.9mm, Pitch 1.27mm, IPC Low Density)
pins on every part: 4 -V (power), 8 +V (power)
part A pins: 1 OUT A (out), 2 -IN A (in), 3 +IN A (in)
part B pins: 5 +IN B (in), 6 -IN B (in), 7 OUT B (out)

## ADA4004-2ARZ-R7
designator U?
Double Channel Wide Bandwidth Operational Amplifier, 12 MHz BW, 2.7 V/us SR, Industrial, 8-pin SOIC (R-8), Reel; Generic Part Number: ADA4004-2; Manufacturer: Analog Devices; PartNumber: ADA4004-2ARZ-R7; Amplifiers Per Package: 2; Input Bias Current: 40nA; Input Offset Voltage: 40uV; Iq/Amp: 2.2mA; Small Signal Bandwidth: 12MHz; V Span Max: 30V; V Span Min: 10V; DatasheetVersion: Rev. G; PackageVersion: 060506-A; PackageReference: R-8; PackageDescription: 8-Pin Standard Small Outline Package, Body 3.9 x 4.9 mm, Pitch 1.27 mm; Supplier 1: Digi-Key; Supplier Part Number 1: ADA4004-2ARZ-R7TR-ND; Supplier 2: Digi-Key; Supplier Part Number 2: ADA4004-2ARZ-R7CT-ND; Supplier 3: Digi-Key; Supplier Part Number 3: ADA4004-2ARZ-R7DKR-ND; Slew Rate: 2.7V/us; Mounting Technology: Surface Mount; Code_JEDEC: MS-012-AA; ComponentLink1Description: Manufacturer URL; ComponentLink1URL: http://www.analog.com/en/index.html; ComponentLink2Description: Datasheet; ComponentLink2URL: http://www.analog.com/static/imported-files/data_sheets/ADA4004-1_4004-2_4004-4.pdf; ComponentLink3Description: Package Specification; ComponentLink3URL: http://www.analog.com/static/imported-files/packages/PKG_PDF/SOIC_Narrow%20(R)/R_8.pdf; ComponentLink4Description: Reference Circuit; ComponentLink4URL: http://www.analog.com/en/all-operational-amplifiers-op-amps/operational-amplifiers-op-amps/ada4004-2/products/product.html#product-recommendations
footprint ADI-R-8_N (SOIC, 8-Leads, Body 4.9x3.9mm, Pitch 1.27mm, IPC Medium Density)
footprint ADI-R-8_L (SOIC, 8-Leads, Body 4.9x3.9mm, Pitch 1.27mm, IPC High Density)
footprint ADI-R-8_M (SOIC, 8-Leads, Body 4.9x3.9mm, Pitch 1.27mm, IPC Low Density)
pins on every part: 4 -V (power), 8 +V (power)
part A pins: 1 OUT A (out), 2 -IN A (in), 3 +IN A (in)
part B pins: 5 +IN B (in), 6 -IN B (in), 7 OUT B (out)

## ADA4004-2ARZ-RL
designator U?
Double Channel Wide Bandwidth Operational Amplifier, 12 MHz BW, 2.7 V/us SR, Industrial, 8-pin SOIC (R-8), Reel; Generic Part Number: ADA4004-2; Manufacturer: Analog Devices; PartNumber: ADA4004-2ARZ-RL; Amplifiers Per Package: 2; Input Bias Current: 40nA; Input Offset Voltage: 40uV; Iq/Amp: 2.2mA; Small Signal Bandwidth: 12MHz; V Span Max: 30V; V Span Min: 10V; DatasheetVersion: Rev. G; PackageVersion: 060506-A; PackageReference: R-8; PackageDescription: 8-Pin Standard Small Outline Package, Body 3.9 x 4.9 mm, Pitch 1.27 mm; Supplier 1: Digi-Key; Supplier Part Number 1: ADA4004-2ARZ-RL-ND; Slew Rate: 2.7V/us; Mounting Technology: Surface Mount; Code_JEDEC: MS-012-AA; ComponentLink1Description: Manufacturer URL; ComponentLink1URL: http://www.analog.com/en/index.html; ComponentLink2Description: Datasheet; ComponentLink2URL: http://www.analog.com/static/imported-files/data_sheets/ADA4004-1_4004-2_4004-4.pdf; ComponentLink3Description: Package Specification; ComponentLink3URL: http://www.analog.com/static/imported-files/packages/PKG_PDF/SOIC_Narrow%20(R)/R_8.pdf; ComponentLink4Description: Reference Circuit; ComponentLink4URL: http://www.analog.com/en/all-operational-amplifiers-op-amps/operational-amplifiers-op-amps/ada4004-2/products/product.html#product-recommendations
footprint ADI-R-8_N (SOIC, 8-Leads, Body 4.9x3.9mm, Pitch 1.27mm, IPC Medium Density)
footprint ADI-R-8_L (SOIC, 8-Leads, Body 4.9x3.9mm, Pitch 1.27mm, IPC High Density)
footprint ADI-R-8_M (SOIC, 8-Leads, Body 4.9x3.9mm, Pitch 1.27mm, IPC Low Density)
pins on every part: 4 -V (power), 8 +V (power)
part A pins: 1 OUT A (out), 2 -IN A (in), 3 +IN A (in)
part B pins: 5 +IN B (in), 6 -IN B (in), 7 OUT B (out)